# Altium integrated library QSTL_LED_PCB.IntLib: 3 symbols
Pins are listed as number, name and electrical type; pins without a type are passive.

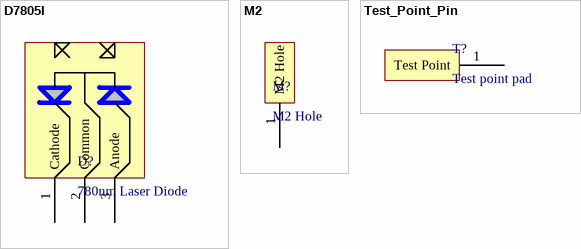
[diagram p0: symbols D7805I to Test_Point_Pin]

## D7805I
designator D?, comment 780nm Laser Diode
footprint D7805I
pins: 1 Cathode, 2 Common, 3 Anode

## M2
designator M?, comment M2 Hole
footprint M2
pins: 1 M2 Hole

## Test_Point_Pin
designator T?, comment Test point pad
footprint Test_Point_Pin
pins: 1 Test Point